# Altium footprint library 0805-LED.PcbLib: 1 footprints
Each footprint in its own frame and in the unit in brackets; x right, y up, seen from the top. Pads: shape width x height; smd on the part's side, far side on the other; paste and mask are expansions set on the pad; w line width, h text height; cw(c..) or ccw(c..) is an arc to the next point about the centre after c.
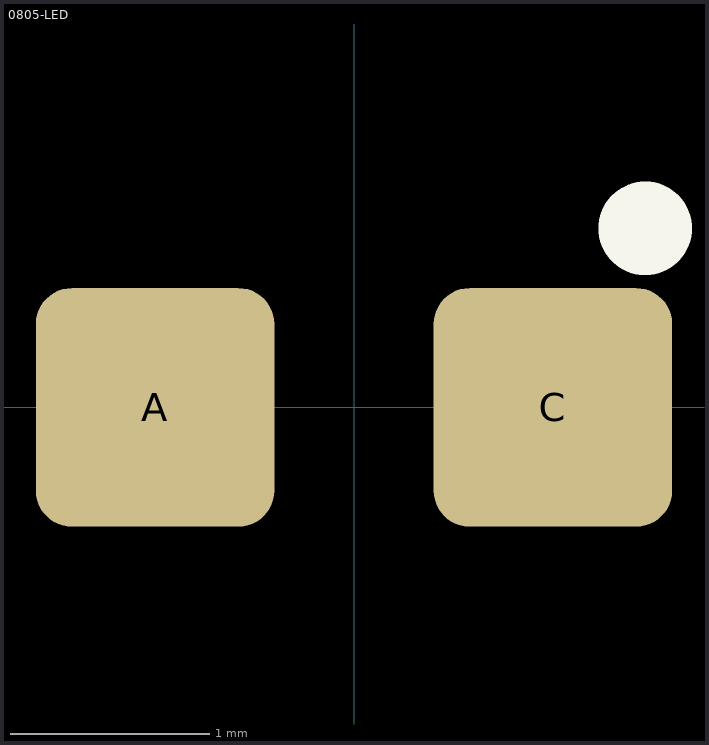
[diagram p0: the footprint, top view; thin cyan lines are the x and y axes]

## 0805-LED [mm]
pads (2):
  rrect30% 1.2x1.2 smd: A(-1,0) C(1,0)
Top Overlay:
  circle w0.4: c1.465,0.9 r0.035
3D body: height 1.1, standoff 0, extent -1.01,-0.625 1.01,0.625